# Altium integrated library MS920SE-FL27E.IntLib: 1 symbol
Pins are listed as number, name and electrical type; pins without a type are passive.

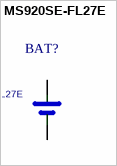
[diagram p0: symbol MS920SE-FL27E]

## MS920SE-FL27E
designator BAT?
PDF: http://www.sii.co.jp/compo/catalog/battery_en.pdf; PRICE: 2.28000; BUY_LINK: http://www.digikey.com/product-detail/en/MS920SE-FL27E/728-1058-ND/1889209; ID: MS920SE-FL27E
footprint MS920SE-FL27E
pins: +, -